# EAGLE library part CC2520_RADIO (library powercube)
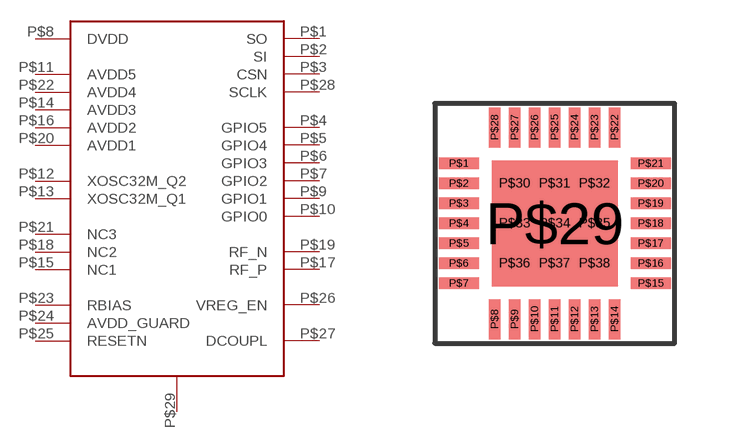
[diagram p6: symbol with the pads of CC2520_RADIO; footprint CC2520_RADIO]

Designator prefix -

## CC2520_RADIO  [CC2520_RADIO]
P$1  SO
P$2  SI
P$3  CSN
P$4  GPIO5
P$5  GPIO4
P$6  GPIO3
P$7  GPIO2
P$8  DVDD
P$9  GPIO1
P$10  GPIO0
P$11  AVDD5
P$12  XOSC32M_Q2
P$13  XOSC32M_Q1
P$14  AVDD3
P$15  NC1
P$16  AVDD2
P$17  RF_P
P$18  NC2
P$19  RF_N
P$20  AVDD1
P$21  NC3
P$22  AVDD4
P$23  RBIAS
P$24  AVDD_GUARD
P$25  RESETN
P$26  VREG_EN
P$27  DCOUPL
P$28  SCLK
P$29  AGND

## Footprint CC2520_RADIO (pad centres in mm)
smd 1 x 0.28: P$1 -2.4,1.5; P$2 -2.4,1; P$3 -2.4,0.5; P$4 -2.4,0; P$5 -2.4,-0.5; P$6 -2.4,-1; P$7 -2.4,-1.5; P$15 2.4,-1.5; P$16 2.4,-1; P$17 2.4,-0.5; P$18 2.4,0; P$19 2.4,0.5; P$20 2.4,1; P$21 2.4,1.5
smd 0.28 x 1: P$8 -1.5,-2.4; P$9 -1,-2.4; P$10 -0.5,-2.4; P$11 0,-2.4; P$12 0.5,-2.4; P$13 1,-2.4; P$14 1.5,-2.4; P$22 1.5,2.4; P$23 1,2.4; P$24 0.5,2.4; P$25 0,2.4; P$26 -0.5,2.4; P$27 -1,2.4; P$28 -1.5,2.4
smd 3.15 x 3.15: P$29 0,0
drill 0.2 pad 0.3: P$30 -1,1; P$31 0,1; P$32 1,1; P$33 -1,0; P$34 0,0; P$35 1,0; P$36 -1,-1; P$37 0,-1; P$38 1,-1